# EAGLE library part 30585 (library amis)
AMIS-30585 S-FSK PLC Modem Source: http://www.amis.com/pdf/amis_30585_ds.pdf
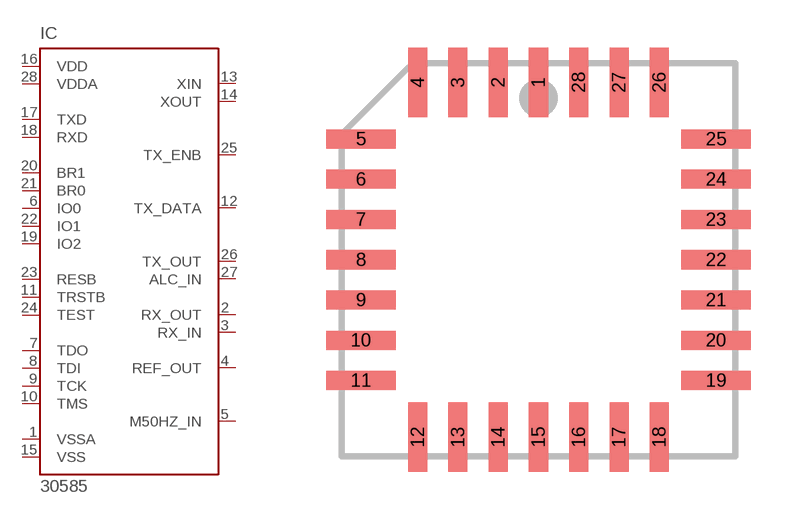
[diagram p0: symbol with the pads of PLCC28S; footprint PLCC28S]

Designator prefix IC

## 30585 (OC_FARNELL: unknown; OC_NEWARK: unknown)  [PLCC28S]
1  VSSA  in
2  RX_OUT  in
3  RX_IN  in
4  REF_OUT  in
5  M50HZ_IN  in
6  IO0  out
7  TDO  out
8  TDI  in
9  TCK  in
10  TMS  in
11  TRSTB  in
12  TX_DATA  out
13  XIN  in
14  XOUT  out
15  VSS  in
16  VDD  in
17  TXD  out
18  RXD  in
19  IO2  out
20  BR1  in
21  BR0  in
22  IO1  out
23  RESB  in
24  TEST  in
25  TX_ENB  out
26  TX_OUT  out
27  ALC_IN  in
28  VDDA  in

## Footprint PLCC28S (pad centres in mm)
PLASTIC LEADED CHIP CARRIER square
smd 0.6 x 2.2: 1 0,5.6; 2 -1.27,5.6; 3 -2.54,5.6; 4 -3.81,5.6; 12 -3.81,-5.6; 13 -2.54,-5.6; 14 -1.27,-5.6; 15 0,-5.6; 16 1.27,-5.6; 17 2.54,-5.6; 18 3.81,-5.6; 26 3.81,5.6; 27 2.54,5.6; 28 1.27,5.6
smd 2.2 x 0.6: 5 -5.6,3.81; 6 -5.6,2.54; 7 -5.6,1.27; 8 -5.6,0; 9 -5.6,-1.27; 10 -5.6,-2.54; 11 -5.6,-3.81; 19 5.6,-3.81; 20 5.6,-2.54; 21 5.6,-1.27; 22 5.6,0; 23 5.6,1.27; 24 5.6,2.54; 25 5.6,3.81